# Altium footprint library TO252.PcbLib: 1 footprints
Each footprint in its own frame and in the unit in brackets; x right, y up, seen from the top. Pads: shape width x height; smd on the part's side, far side on the other; paste and mask are expansions set on the pad; w line width, h text height; cw(c..) or ccw(c..) is an arc to the next point about the centre after c.
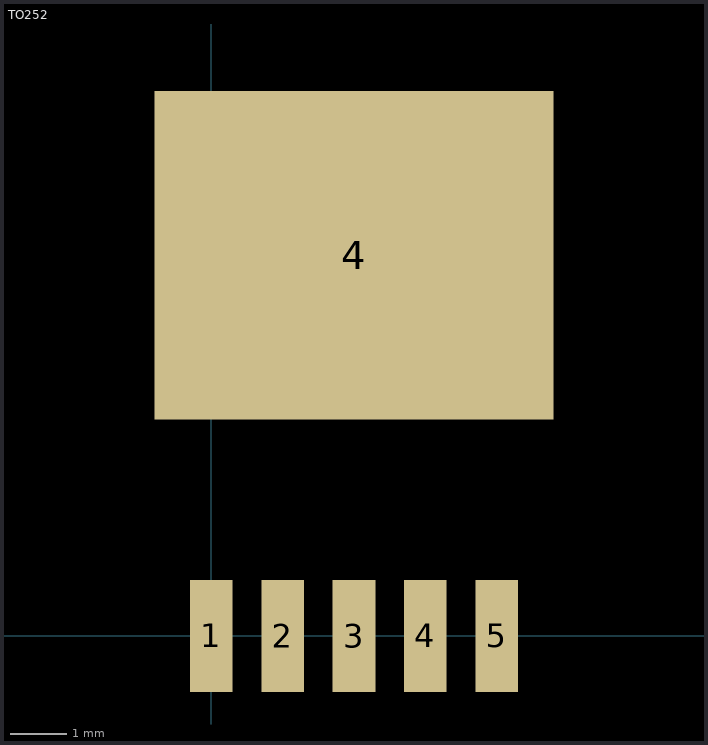
[diagram p0: the footprint, top view; thin cyan lines are the x and y axes]

## TO252 [mm]
height 5
pads (6):
  rect 0.76x2 smd: 1(0,0) 2(1.27,0) 3(2.54,0) 4(3.81,0) 5(5.08,0)
  rect 7.1x5.85 smd: 4(2.54,6.775)
3D body "TO252-5.x_t": height 2.3, standoff 0, extent -0.73,-0.5 5.81,9.168